# EAGLE library part 61001613321 (library Board-to-Board (rev18a))
WR-PHD 2.54mm SMT Socket Header, 16 Pins=>Code : CON_BTB_SHD_2.54_1_SMT_61001613321 <http://katalog.we-online.de/media/images/eican/Con_BTB_SHD_2.54_1_SMT_6100xx11921_pf2.jpg> Details see: http://katalog.we-online.de/en/em/PHD_2_54_SMT_SOCKET_HEADER_6100XXXXX21 Created 2014-05-30, Karrer Zheng 2014 (C) Würth Elektronik
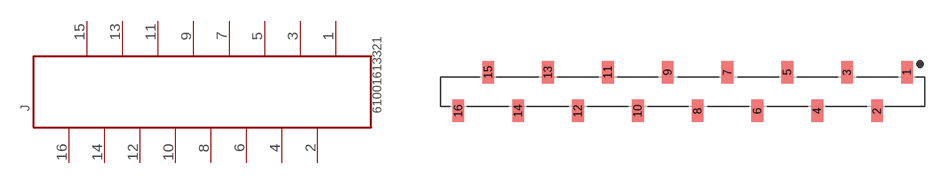
[diagram p198: symbol with the pads of 61001613321; footprint 61001613321]

Designator prefix J

## 61001613321  [61001613321]
1  16  pas
2  15  pas
3  14  pas
4  13  pas
5  12  pas
6  11  pas
7  10  pas
8  9  pas
9  8  pas
10  7  pas
11  6  pas
12  5  pas
13  4  pas
14  3  pas
15  2  pas
16  1  pas

## Footprint 61001613321 (pad centres in mm)
WR-PHD 2.54mm SMT Socket Header, 16 Pins
smd 1 x 1.91: 1 19.05,1.645; 2 16.51,-1.645; 3 13.97,1.645; 4 11.43,-1.645; 5 8.89,1.645; 6 6.35,-1.645; 7 3.81,1.645; 8 1.27,-1.645; 9 -1.27,1.645; 10 -3.81,-1.645; 11 -6.35,1.645; 12 -8.89,-1.645; 13 -11.43,1.645; 14 -13.97,-1.645; 15 -16.51,1.645; 16 -19.05,-1.645